# Altium schematic symbol library SCH - MCU - NXP - NXP MCXA142VFT QFN48.SchLib: 1 symbol
Pins are listed as number, name and electrical type; pins without a type are passive.

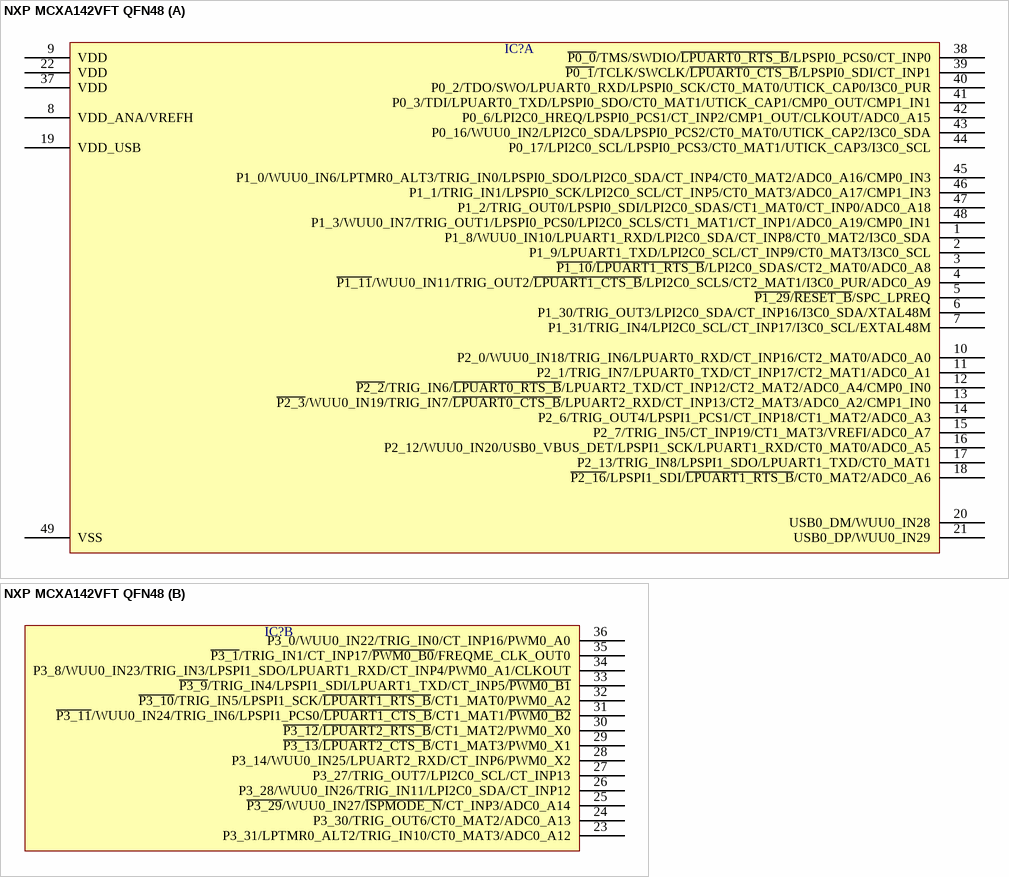
[diagram p0: symbol NXP MCXA142VFT QFN48]

## NXP MCXA142VFT QFN48
designator IC?  (value not drawn)
part A pins: 1 P1_8/WUU0_IN10/LPUART1_RXD/LPI2C0_SDA/CT_INP8/CT0_MAT2/I3C0_SDA, 2 P1_9/LPUART1_TXD/LPI2C0_SCL/CT_INP9/CT0_MAT3/I3C0_SCL, 3 ~{P1_10}/~{LPUART1_RTS_B}/LPI2C0_SDAS/CT2_MAT0/ADC0_A8, 4 ~{P1_11}/WUU0_IN11/TRIG_OUT2/~{LPUART1_CTS_B}/LPI2C0_SCLS/CT2_MAT1/I3C0_PUR/ADC0_A9, 5 ~{P1_29}/~{RESET_B}/SPC_LPREQ, 6 P1_30/TRIG_OUT3/LPI2C0_SDA/CT_INP16/I3C0_SDA/XTAL48M, 7 P1_31/TRIG_IN4/LPI2C0_SCL/CT_INP17/I3C0_SCL/EXTAL48M, 8 VDD_ANA/VREFH, 9 VDD, 10 P2_0/WUU0_IN18/TRIG_IN6/LPUART0_RXD/CT_INP16/CT2_MAT0/ADC0_A0, 11 P2_1/TRIG_IN7/LPUART0_TXD/CT_INP17/CT2_MAT1/ADC0_A1, 12 ~{P2_2}/TRIG_IN6/~{LPUART0_RTS_B}/LPUART2_TXD/CT_INP12/CT2_MAT2/ADC0_A4/CMP0_IN0, 13 ~{P2_3}/WUU0_IN19/TRIG_IN7/~{LPUART0_CTS_B}/LPUART2_RXD/CT_INP13/CT2_MAT3/ADC0_A2/CMP1_IN0, 14 P2_6/TRIG_OUT4/LPSPI1_PCS1/CT_INP18/CT1_MAT2/ADC0_A3, 15 P2_7/TRIG_IN5/CT_INP19/CT1_MAT3/VREFI/ADC0_A7, 16 P2_12/WUU0_IN20/USB0_VBUS_DET/LPSPI1_SCK/LPUART1_RXD/CT0_MAT0/ADC0_A5, 17 P2_13/TRIG_IN8/LPSPI1_SDO/LPUART1_TXD/CT0_MAT1, 18 ~{P2_16}/LPSPI1_SDI/~{LPUART1_RTS_B}/CT0_MAT2/ADC0_A6, 19 VDD_USB, 20 USB0_DM/WUU0_IN28, 21 USB0_DP/WUU0_IN29, 22 VDD, 37 VDD, 38 ~{P0_0}/TMS/SWDIO/~{LPUART0_RTS_B}/LPSPI0_PCS0/CT_INP0, 39 ~{P0_1}/TCLK/SWCLK/~{LPUART0_CTS_B}/LPSPI0_SDI/CT_INP1, 40 P0_2/TDO/SWO/LPUART0_RXD/LPSPI0_SCK/CT0_MAT0/UTICK_CAP0/I3C0_PUR, 41 P0_3/TDI/LPUART0_TXD/LPSPI0_SDO/CT0_MAT1/UTICK_CAP1/CMP0_OUT/CMP1_IN1, 42 P0_6/LPI2C0_HREQ/LPSPI0_PCS1/CT_INP2/CMP1_OUT/CLKOUT/ADC0_A15, 43 P0_16/WUU0_IN2/LPI2C0_SDA/LPSPI0_PCS2/CT0_MAT0/UTICK_CAP2/I3C0_SDA, 44 P0_17/LPI2C0_SCL/LPSPI0_PCS3/CT0_MAT1/UTICK_CAP3/I3C0_SCL, 45 P1_0/WUU0_IN6/LPTMR0_ALT3/TRIG_IN0/LPSPI0_SDO/LPI2C0_SDA/CT_INP4/CT0_MAT2/ADC0_A16/CMP0_IN3, 46 P1_1/TRIG_IN1/LPSPI0_SCK/LPI2C0_SCL/CT_INP5/CT0_MAT3/ADC0_A17/CMP1_IN3, 47 P1_2/TRIG_OUT0/LPSPI0_SDI/LPI2C0_SDAS/CT1_MAT0/CT_INP0/ADC0_A18, 48 P1_3/WUU0_IN7/TRIG_OUT1/LPSPI0_PCS0/LPI2C0_SCLS/CT1_MAT1/CT_INP1/ADC0_A19/CMP0_IN1, 49 VSS
part B pins: 23 P3_31/LPTMR0_ALT2/TRIG_IN10/CT0_MAT3/ADC0_A12, 24 P3_30/TRIG_OUT6/CT0_MAT2/ADC0_A13, 25 ~{P3_29}/WUU0_IN27/~{ISPMODE_N}/CT_INP3/ADC0_A14, 26 P3_28/WUU0_IN26/TRIG_IN11/LPI2C0_SDA/CT_INP12, 27 P3_27/TRIG_OUT7/LPI2C0_SCL/CT_INP13, 28 P3_14/WUU0_IN25/LPUART2_RXD/CT_INP6/PWM0_X2, 29 ~{P3_13}/~{LPUART2_CTS_B}/CT1_MAT3/PWM0_X1, 30 ~{P3_12}/~{LPUART2_RTS_B}/CT1_MAT2/PWM0_X0, 31 ~{P3_11}/WUU0_IN24/TRIG_IN6/LPSPI1_PCS0/~{LPUART1_CTS_B}/CT1_MAT1/~{PWM0_B2}, 32 ~{P3_10}/TRIG_IN5/LPSPI1_SCK/~{LPUART1_RTS_B}/CT1_MAT0/PWM0_A2, 33 ~{P3_9}/TRIG_IN4/LPSPI1_SDI/LPUART1_TXD/CT_INP5/~{PWM0_B1}, 34 P3_8/WUU0_IN23/TRIG_IN3/LPSPI1_SDO/LPUART1_RXD/CT_INP4/PWM0_A1/CLKOUT, 35 ~{P3_1}/TRIG_IN1/CT_INP17/~{PWM0_B0}/FREQME_CLK_OUT0, 36 P3_0/WUU0_IN22/TRIG_IN0/CT_INP16/PWM0_A0